# EAGLE library part 6570XX230101_657010230101 (library WR-MPC5)
WR-MPC5 5.70 mm Male Header Dual Row Right Angled Kind Properties Pitch 5.7 mm Rows Dual Type Right Angled Operating Temperature -40 up to +105 °C Durability 25 Mating cycles Material Properties Insulator Material LCP Insulator Flammability Rating UL94 V-0 Insulator Color Black Pin Material Copper Alloy Pin Plating Tin over Nickel Packaging Properties Packaging Tray Electric Properties IR 26 A Working Voltage 600 V (AC) Withstanding Voltage 2200 V (AC) Contact Resistance 2 mΩ Certification REACh Approval Conform or declared [(EC)1907/2006] RoHS Approval Compliant [2011/65/EU&2015/863] UL Approval E323964 <https://www.we-online.com/components/media/o731517v209%20WR-MPC5_6570xx230101_Multi-parts.jpg> Details see: www.we-online.com/components/products/WR_MPC5_5_70_MM_MALE_HEADER_DUAL_ROW_RIGHT_ANGLED <www.we-online.com/catalog/WR_MPC5_5_70_MM_MALE_HEADER_DUAL_ROW_RIGHT_ANGLED/?utm_source=eagle_model&utm_medium=description_link&utm_campaign=eisos_eagle> Updated by Ella 2023-10-09 2023 (C) Würth Elektronik
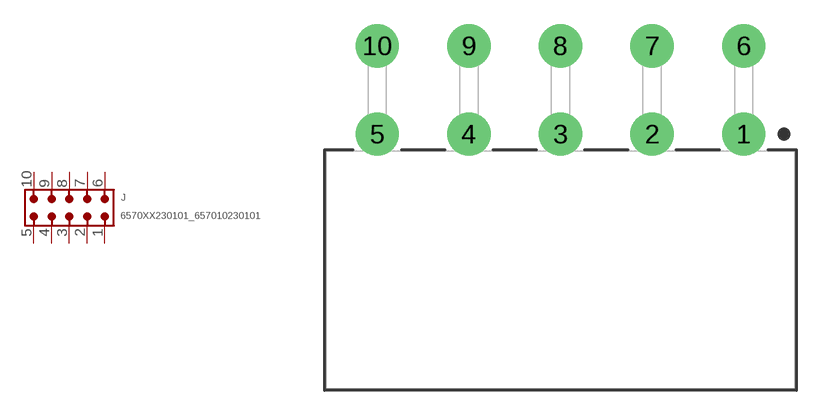
[diagram p4: symbol with the pads of 657010230101; footprint 657010230101]

Designator prefix J

## 6570XX230101_657010230101 (CONTACT-RESISTANCE: 2mOhm; DATASHEET-URL: https://www.we-online.com/redexpert/spec/657010230101?ae; GENDER: Male; IR: 26A; MOUNT: THT; PART-NUMBER: 657010230101; PITCH: 5.7mm; POLARITY: 10; ROWS: Dual; TYPE: Right Angled; VALUE: 657010230101; WORKING-VOLTAGE: 600V (AC))  [657010230101]
1  1  pas
2  2  pas
3  3  pas
4  4  pas
5  5  pas
6  6  pas
7  7  pas
8  8  pas
9  9  pas
10  10  pas

## Footprint 657010230101 (pad centres in mm)
WR-MPC5 THT Dual Row Male Header Right Angled THT, 8pins
drill 1.8: 1 11.4,0; 2 5.7,0; 3 0,0; 4 -5.7,0; 5 -11.4,0; 6 11.4,5.5; 7 5.7,5.5; 8 0,5.5; 9 -5.7,5.5; 10 -11.4,5.5